# Altium integrated library 纽扣电池座.IntLib: 2 symbols
Pins are listed as number, name and electrical type; pins without a type are passive.

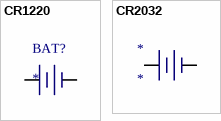
[diagram p0: symbols CR1220 to CR2032]

## CR1220
designator BAT?
footprint CR1220-A
footprint CR1220-B
pins: 1, 2

## CR2032
designator *
footprint CR2032-A
footprint CR2032-B
pins: 1, 2